# Altium integrated library TS06-667-25-R-260-G-SMT-TR.IntLib: 1 symbol
Pins are listed as number, name and electrical type; pins without a type are passive.

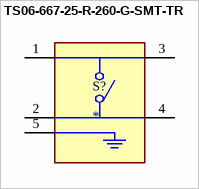
[diagram p0: symbol TS06-667-25-R-260-G-SMT-TR]

## TS06-667-25-R-260-G-SMT-TR
designator S?
6 x 6.7 mm, 2.5 mm Actuator Height, 260 gf, Red, Surface Mount, SPST, Tactile Switch; MF: Same Sky; MP: TS06-667-25-R-260-G-SMT-TR; SnapEDA_Link: https://www.snapeda.com/parts/TS06-667-25-R-260-G-SMT-TR/Same+Sky/view-part/?ref=snap; Package: None; Value: *; Check_prices: https://www.snapeda.com/parts/TS06-667-25-R-260-G-SMT-TR/Same+Sky/view-part/?ref=eda
footprint SW_TS06-667-25-R-260-G-SMT-TR
pins: 1, 2, 3, 4, 5